# EAGLE library part SENSOR_BOARD_ADXL362 (library sensors)
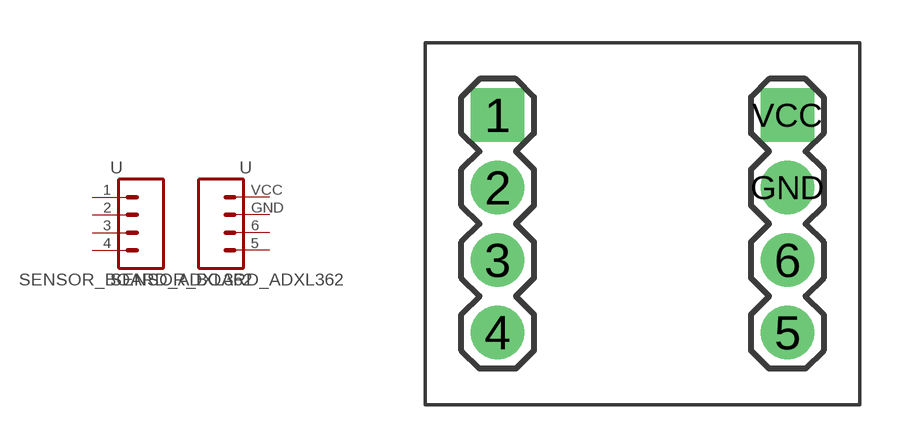
[diagram p11: symbol with the pads of SENSOR_BOARD_GEN_SMALL; footprint SENSOR_BOARD_GEN_SMALL]

Designator prefix -

## SENSOR_BOARD_ADXL362_SMALL  [SENSOR_BOARD_GEN_SMALL]
1  CLK  pas
2  MOSI  pas
3  MISO  pas
4  /CS  pas
5  INT2  pas
6  INT1  pas
GND  GND  pas
VCC  VCC  pas

## Footprint SENSOR_BOARD_GEN_SMALL (pad centres in mm)
drill 1.016 pad 1.88 square: 1 2.54,10.16; VCC 12.7,10.16
drill 1.016 pad 1.88: 2 2.54,7.62; 3 2.54,5.08; 4 2.54,2.54; 5 12.7,2.54; 6 12.7,5.08; GND 12.7,7.62